# EAGLE library part RC4558-OPAMP (library MPPT)
Dual General-Purpose Operational Amplifier
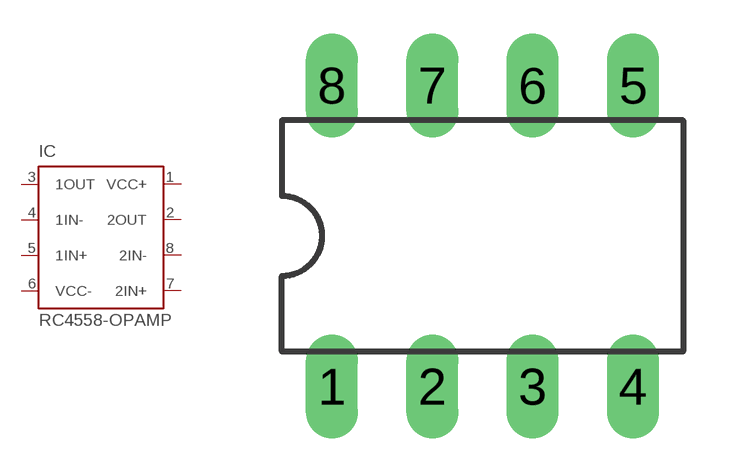
[diagram p1: symbol with the pads of DIL08; footprint DIL08]

Designator prefix IC

## RC4558-OPAMP (MF: TEXAS INSTRUMENTS; MPN: RC4558P)  [DIL08]
1  VCC+  pwr
2  2OUT  out
3  1OUT  out
4  1IN-  in
5  1IN+  in
6  VCC-  pwr
7  2IN+  in
8  2IN-  in

## Footprint DIL08 (pad centres in mm)
Dual In Line Package
drill 0.813 long: 1 -3.81,-3.81; 2 -1.27,-3.81; 3 1.27,-3.81; 4 3.81,-3.81; 5 3.81,3.81; 6 1.27,3.81; 7 -1.27,3.81; 8 -3.81,3.81